# Altium schematic symbol library Generator_monostabilny.SchLib: 7 symbols
Pins are listed as number, name and electrical type; pins without a type are passive.

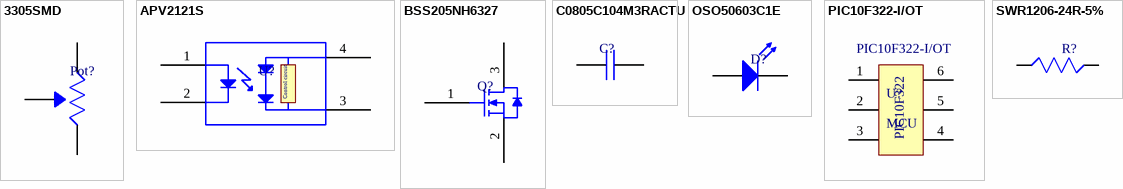
[diagram p0: symbols 3305SMD to SWR1206-24R-5%]

## 3305SMD
designator Pot?  (value not drawn)
footprint SOT200P465X20-3N (SOT223, 3-Leads, Body 3,65x4,65mm (avg), Pitch 2,00mm, IPC Medium Density)
pins: 1, 2, 3

## APV2121S
designator U?  (value not drawn)
Photovoltaic MOSFET Driver , 4-pin SOP,; Manufacturer: Panasonic; Manufacturer Part Number: APV2121S; Forward Voltage: 1.5V; Number of Channels: 1; Max Output Voltage: 8.2V; Output Current per Channel: 8uA; Reverse Breakdown Voltage: 5V; Forward Current: 50mA; Max Power Dissipation: 75mW; Isolation Voltage: 2.5kV; Input Type: DC; Supplier 1: Digi-Key; RoHS: Yes; Category: Solid State Relays; Stock 1: 1023; Pricing 1: 1=2,89000, 10=1,92600, 100=1,48220, 500=1,33984, 1000=1,18500 (USD); Mount: Surface Mount; Case/Package: SOP; Number of Pins: 4; Min Operating Temperature: -40°C; Max Operating Temperature: 85°C; Packaging: Rail/Tube; Package Quantity: 100; Number of Elements: 1; Power Dissipation: 75mW; Reverse Voltage (DC): 5V; Series: -; RMS Current (Irms): 8uA; Output Current: 8uA; Output Voltage: 5V; Voltage Rating (DC): 2.5kV; Termination: SMD/SMT; Input Current: 50mA; RoHS Compliant: Yes; Lead Free: Lead Free; REACH SVHC: No SVHC; ComponentLink1URL: https://datasheet.ciiva.com/24491/semi-eng-apv-24491093.pdf?src-supplier=Onlinecomponents.com; ComponentLink1Description: https://datasheet.ciiva.com/24491/semi-eng-apv-24491093.pdf?src-supplier=Onlinecomponents.com; ComponentLink2URL: https://datasheet.ciiva.com/1526/625948-1526211.pdf?src-supplier=Element14; ComponentLink2Description: https://datasheet.ciiva.com/1526/625948-1526211.pdf?src-supplier=Element14; Supplier Part Number 1: 255-2658-ND
footprint SOP254P680X210-4N (SOP, 4-Leads, Body 4,30x4,40mm, Pitch 2,54mm, IPC Medium Density)
pins: 1, 2, 3, 4
text: Control circuit

## BSS205NH6327
designator Q?  (value not drawn)
Single N-Channel 20 V 50 mOhm 2.1 nC OptiMOS? Small Signal Mosfet - SOT-23; Manufacturer: Infineon; Manufacturer Part Number: BSS205NH6327; Drain to Source Voltage (Vdss): 20V; Rds On Max: 50mR; Rise Time: 2.9ns; Continuous Drain Current (ID): 2.5A; Drain to Source Resistance: 85mR; Gate to Source Voltage (Vgs): 12V; Input Capacitance: 419pF; Max Power Dissipation: 500mW; Turn-Off Delay Time: 11ns; Turn-On Delay Time: 5.8ns; Fall Time: 2.4ns; number: Q?; Supplier 1: Digi-Key; Supplier Part Number 1: BSS205NH6327XTSA1CT-ND; RoHS: Yes; Category: MOSFETs; Stock 1: 9097; Pricing 1: 1=0,50000, 10=0,37700, 100=0,23480, 500=0,16068, 1000=0,12360 (USD); Mount: Surface Mount; Case/Package: TO-236-3; Number of Pins: 3; Min Operating Temperature: -55°C; Max Operating Temperature: 150°C; Packaging: Cut Tape; Package Quantity: 1; Element Configuration: Single; Series: OptiMOS™; Length: 2.9mm; Width: 0.1mm; Height: 1.3mm; RoHS Compliant: Yes; ComponentLink1URL: https://datasheet.ciiva.com/6379/infineon-bss205n-ds-v02-04-en-6379889.pdf?src-supplier=Digi-Key; ComponentLink1Description: https://datasheet.ciiva.com/6379/infineon-bss205n-ds-v02-04-en-6379889.pdf?src-supplier=Digi-Key; ComponentLink2URL: https://datasheet.ciiva.com/6379/infineon-bss205n-ds-v02-04-en-6379886.pdf?src-supplier=Digi-Key; ComponentLink2Description: https://datasheet.ciiva.com/6379/infineon-bss205n-ds-v02-04-en-6379886.pdf?src-supplier=Digi-Key; ComponentLink3URL: https://datasheet.ciiva.com/11171/infineon-bss205n-ds-v02-04-en-11171467.pdf?src-supplier=Avnet; ComponentLink3Description: https://datasheet.ciiva.com/11171/infineon-bss205n-ds-v02-04-en-11171467.pdf?src-supplier=Avnet
footprint SOT95P250X110-3N (SOT23, 3-Leads, Body 2,90x2,50mm, Pitch 0,95mm, IPC Medium Density)
pins: 1, 2, 3

## C0805C104M3RACTU
designator C?  (value not drawn)
CAP CER 0.1UF 25V X7R 0805; Manufacturer: KEMET; Manufacturer Part Number: C0805C104M3RACTU; Dielectric Material: Ceramic; Tolerance: 20%; Dissipation Factor: 5%; *: 100nF; Capacity_number: C?; Supplier 1: Digi-Key; Supplier Part Number 1: 399-8000-1-ND; RoHS: Yes; Stock 1: 353956; Pricing 1: 1=0,10000, 10=0,06500, 50=0,03520, 100=0,02870, 500=0,02052, 1000=0,01613 (USD); Mount: Surface Mount; Case/Package: 0805; Case Code (Metric): 2012; Case Code (Imperial): 0805; Min Operating Temperature: -55°C; Max Operating Temperature: 125°C; Package Quantity: 1; Voltage Rating: 25V; Packaging: Tape and Reel; Voltage Rating (DC): 25V; Dielectric: X7R; Termination: SMD/SMT; Voltage: 25V; Length: 2mm; Width: 0.049inch; Height: 0.9mm; Thickness: 0.035inch; Lead Pitch: 0.75mm; Depth: 1.25mm; Radiation Hardening: No; REACH SVHC: No SVHC; ComponentLink1URL: http://components.arrow.com/part/dataview/2091097S3491315N7429?src-supplier=Arrow+Electronics; ComponentLink1Description: http://components.arrow.com/part/dataview/2091097S3491315N7429?src-supplier=Arrow+Electronics; ComponentLink2URL: http://uk.rs-online.com/webdocs/13da/0900766b813da9ff.pdf?src-supplier=RSComponents; ComponentLink2Description: http://uk.rs-online.com/webdocs/13da/0900766b813da9ff.pdf?src-supplier=RSComponents; ComponentLink3URL: http://components.arrow.com/part/dataview/0323_00178100?src-supplier=Arrow+Europe; ComponentLink3Description: http://components.arrow.com/part/dataview/0323_00178100?src-supplier=Arrow+Europe; ComponentLink4URL: http://uk.rs-online.com/webdocs/13da/0900766b813daa05.pdf?src-supplier=RSComponents; ComponentLink4Description: http://uk.rs-online.com/webdocs/13da/0900766b813daa05.pdf?src-supplier=RSComponents; ComponentLink5URL: https://www.alliedelec.com/m/d/6f3b5eb83d09db50ed28bdc730567b33.pdf?src-supplier=Allied+Electronics; ComponentLink5Description: https://www.alliedelec.com/m/d/6f3b5eb83d09db50ed28bdc730567b33.pdf?src-supplier=Allied+Electronics; ComponentLink6URL: http://www.farnell.com/datasheets/2746330.pdf?src-supplier=Farnell; ComponentLink6Description: http://www.farnell.com/datasheets/2746330.pdf?src-supplier=Farnell; ComponentLink7URL: https://www.alliedelec.com/m/d/e7aa2b5497e2375e4ffc0e8be19e16e2.pdf?src-supplier=Allied+Electronics; ComponentLink7Description: https://www.alliedelec.com/m/d/e7aa2b5497e2375e4ffc0e8be19e16e2.pdf?src-supplier=Allied+Electronics; ComponentLink8URL: http://www.jameco.com/Jameco/Products/ProdDS/1566487.pdf?src-supplier=Jameco; ComponentLink8Description: http://www.jameco.com/Jameco/Products/ProdDS/1566487.pdf?src-supplier=Jameco; ComponentLink9URL: http://www.mouser.com/ds/2/212/KEM_C1002_X7R_SMD-1102033.pdf?src-supplier=Mouser; ComponentLink9Description: http://www.mouser.com/ds/2/212/KEM_C1002_X7R_SMD-1102033.pdf?src-supplier=Mouser; ComponentLink10URL: http://www.farnell.com/datasheets/2746330.pdf?src-supplier=Element14; ComponentLink10Description: http://www.farnell.com/datasheets/2746330.pdf?src-supplier=Element14; ComponentLink11URL: http://www.farnell.com/datasheets/1828800.pdf?src-supplier=Newark; ComponentLink11Description: http://www.farnell.com/datasheets/1828800.pdf?src-supplier=Newark; ComponentLink12URL: http://www.farnell.com/datasheets/2746330.pdf?src-supplier=Newark; ComponentLink12Description: http://www.farnell.com/datasheets/2746330.pdf?src-supplier=Newark; ComponentLink13URL: http://capacitoredge.kemet.com/capedge2/DataSheet?pn=C0805C104M3RACTU&src-supplier=Avnet; ComponentLink13Description: http://capacitoredge.kemet.com/capedge2/DataSheet?pn=C0805C104M3RACTU&src-supplier=Avnet; ComponentLink14URL: https://api.kemet.com/component-edge/download/datasheet/C0805C104M3RACTU.pdf?src-supplier=Digi-Key; ComponentLink14Description: https://api.kemet.com/component-edge/download/datasheet/C0805C104M3RACTU.pdf?src-supplier=Digi-Key; Category: Ceramic Capacitors
footprint Capacitor
pins: 1, 2

## OSO50603C1E
designator D?, comment LED  (value not drawn)
LED; SMD; 0603; orange; 100-200mcd; 1.6x0.8mm; 120°; 5m; Manufacturer: OptoSupply; Manufacturer Part Number: OSO50603C1E; Supplier 1: TME; Supplier Part Number 1: OSO50603C1E; RoHS: No; Stock 1: 33850; Parameter 1: LED
footprint Diode
pins: A, K

## PIC10F322-I/OT
designator U?, comment MCU  Supplier Part Number 1: PIC10F322-I/OT
RISC Microcontroller, 8-Bit, FLASH, PIC10 CPU, 20MHz, CMOS, PDSO6; Manufacturer: Microchip; RAM Size: 64B; Number of I/Os: 3; Number of Timers/Counters: 2; Number of PWM Channels: 1; Min Supply Voltage: 2.5V; Max Supply Voltage: 5.5V; Max Power Dissipation: 800mW; Data Bus Width: 8b; Number of Programmable I/O: 4; Max Frequency: 16MHz; Watchdog Timer: Yes; Memory Size: 0.875KB; Nominal Supply Current: 800uA; Peripherals: PWM,POR,WDT; Core Architecture: PIC; Manufacturer Part Number: PIC10F322-I/OT; RoHS: Yes; Category: Microcontrollers; Case/Package: SOT-23; Number of Pins: 6; Min Operating Temperature: -40°C; Max Operating Temperature: 85°C; Packaging: Bag; Number of ADC Channels: 3; Frequency: 20MHz; Address Bus Width: 8b; Memory Type: FLASH; Supply Current: 800uA; Length: 3.1mm; Width: 1.8mm; Height: 1.3mm; Radiation Hardening: No; REACH SVHC: No SVHC; Lead Free: Lead Free; RoHS Compliant: Yes; ComponentLink1URL: https://datasheet.ciiva.com/7665/41597a-7665378.pdf?src-supplier=Element14; ComponentLink1Description: https://datasheet.ciiva.com/7665/41597a-7665378.pdf?src-supplier=Element14; ComponentLink2URL: https://datasheet.ciiva.com/4838/41566b-59364-4838000.pdf?src-supplier=Mouser; ComponentLink2Description: https://datasheet.ciiva.com/4838/41566b-59364-4838000.pdf?src-supplier=Mouser; ComponentLink3URL: https://datasheet.ciiva.com/26937/getdatasheetpartid-765326-26937785.pdf?src-supplier=Verical; ComponentLink3Description: https://datasheet.ciiva.com/26937/getdatasheetpartid-765326-26937785.pdf?src-supplier=Verical; ComponentLink4URL: https://datasheet.ciiva.com/14100/pic10-l-lf320-322-eng-tds-14100591.pdf?src-supplier=Distrelec; ComponentLink4Description: https://datasheet.ciiva.com/14100/pic10-l-lf320-322-eng-tds-14100591.pdf?src-supplier=Distrelec; ComponentLink5URL: https://datasheet.ciiva.com/7665/1506141-7665675.pdf?src-supplier=Element14; ComponentLink5Description: https://datasheet.ciiva.com/7665/1506141-7665675.pdf?src-supplier=Element14; ComponentLink6URL: https://datasheet.ciiva.com/9233/41585a-9233513.pdf?src-supplier=Avnet; ComponentLink6Description: https://datasheet.ciiva.com/9233/41585a-9233513.pdf?src-supplier=Avnet; ComponentLink7URL: https://datasheet.ciiva.com/16352/filehandler-aspxddocname-en555020-16352362.pdf?src-supplier=Future+Electronics; ComponentLink7Description: https://datasheet.ciiva.com/16352/filehandler-aspxddocname-en555020-16352362.pdf?src-supplier=Future+Electronics; ComponentLink8URL: https://datasheet.ciiva.com/17387/41585a-17387829.pdf?src-supplier=Avnet+Europe; ComponentLink8Description: https://datasheet.ciiva.com/17387/41585a-17387829.pdf?src-supplier=Avnet+Europe; ComponentLink9URL: https://datasheet.ciiva.com/1487/41585a-1487032.pdf?src-supplier=Digi-Key; ComponentLink9Description: https://datasheet.ciiva.com/1487/41585a-1487032.pdf?src-supplier=Digi-Key; Supplier 1: TME
footprint SOT95P270X145-6N (SOT23, 6-Leads, Body 2,90x2,70mm, Pitch 0,95mm, IPC Medium Density)
pins: 1, 2, 3, 4, 5, 6
text: PIC10F322

## SWR1206-24R-5%
designator R?  (value not drawn)
footprint Resistor
pins: 1, 2 15